# EAGLE library part WE-RJ45_7499121211 (library 7499511611A_Eagle_WE-RJ45_rev20a)
WE-RJ45 LAN Transformer Characteristics RJ45 Connector with integrated transformer / common mode choke Power over Ethernet up to 50 Watt and speeds up to 10 Gbit/s Available in SMD, THT and THT with USB Compliant with standards: IEEE 802.3u, IEEE 802.3ab, IEEE 802.3af, IEEE 802.3at, IEEE 802.3an and upcoming IEE 802.3bt Applications Suitable for industrial temperatures from –40 °C up to +85 °C Compatible to Industrial Ethernet systems like EtherCAT or Profinet Compliant with most IC’s for Ethernet applications such as Microchip, Texas Instruments, Broadcom, Linear Technology Hubs, Routers, Switches, IP cameras, IoT applications <https://katalog.we-online.com/media/images/v2/o35731v209%20Family_WE-RJ45-LAN.jpg> Details see: https://katalog.we-online.com/en/pbs/WE-LAN-RJ45 Updated by Ella Wu 2019-08-05 2019 (C) Wurth Elektronik
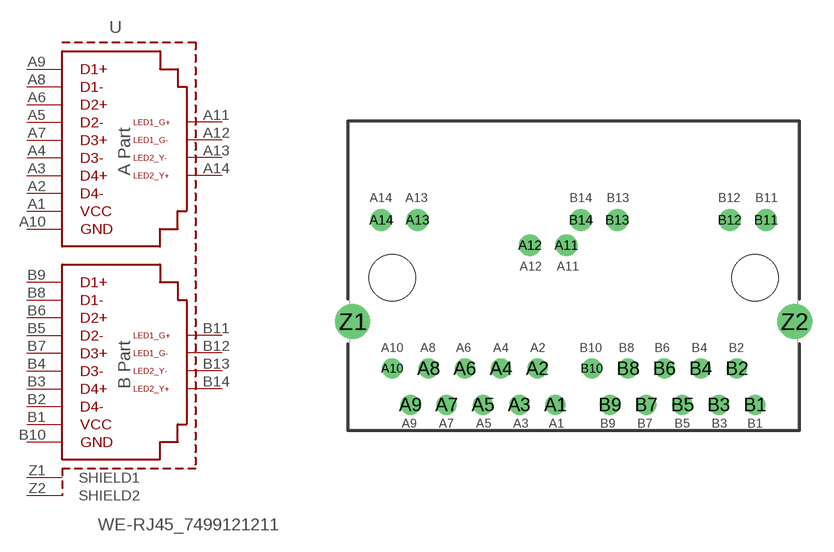
[diagram p44: symbol with the pads of 7499121211; footprint 7499121211]

Designator prefix -

## WE-RJ45_7499121211 (DATA-RATE: 10/100/1000 Base-T; DATASHEET-URL: https://www.we-online.com/catalog/datasheet/7499121211.pdf; LED: green-yellow; MOUNT: THT; PART-NUMBER: 7499121211; POE: non-PoE; PORTS: 1x2; USB: No)  [7499121211]
A1  A1  pwr
A2  A2
A3  A3
A4  A4
A5  A5
A6  A6
A7  A7
A8  A8
A9  A9
A10  A10  pwr
A11  A11  pas
A12  A12  pas
A13  A13  pas
A14  A14  pas
B1  B1  pwr
B2  B2
B3  B3
B4  B4
B5  B5
B6  B6
B7  B7
B8  B8
B9  B9
B10  B10  pwr
B11  B11  pas
B12  B12  pas
B13  B13  pas
B14  B14  pas
Z1  SHIELD1  pwr
Z2  SHIELD2  pwr

## Footprint 7499121211 (pad centres in mm)
WE-RJ45 LAN Transformer 10/100/1000 Base-T
drill 0.89: A1 -1.27,-8.89; A2 -2.54,-6.35; A3 -3.81,-8.89; A4 -5.08,-6.35; A5 -6.35,-8.89; A6 -7.62,-6.35; A7 -8.89,-8.89; A8 -10.16,-6.35; A9 -11.43,-8.89; A10 -12.7,-6.35; B1 12.7,-8.89; B2 11.43,-6.35; B3 10.16,-8.89; B4 8.89,-6.35; B5 7.62,-8.89; B6 6.35,-6.35; B7 5.08,-8.89; B8 3.81,-6.35; B9 2.54,-8.89; B10 1.27,-6.35
drill 1.02: A11 -0.51,2.29; A12 -3.05,2.29; A13 -10.93,4.06; A14 -13.47,4.06; B11 13.47,4.06; B12 10.93,4.06; B13 3.05,4.06; B14 0.51,4.06
drill 1.63: Z1 -15.465,-3.05; Z2 15.465,-3.05
hole 3.25 at -12.7,0
hole 3.25 at 12.7,0